# Altium schematic symbol library 06036C104JAT2A.SchLib: 2 symbols
Pins are listed as number, name and electrical type; pins without a type are passive.

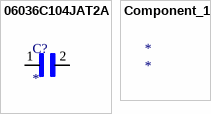
[diagram p0: symbols 06036C104JAT2A to Component_1]

## 06036C104JAT2A
designator C?
Cap Ceramic 0.1uF 6.3V X7R 5% Pad SMD 0603 125C T/R; MF: {'manufacturer': u'AVX'}; MP: 06036C104JAT2A; Package: None; Price: None; Availability: Unavailable; Value: *
footprint CAPC1608X90N
pins: 1, 2

## Component_1
designator *